# Altium footprint library pinheader_P10R2.PcbLib: 1 footprints
Each footprint in its own frame and in the unit in brackets; x right, y up, seen from the top. Pads: shape width x height; smd on the part's side, far side on the other; paste and mask are expansions set on the pad; w line width, h text height; cw(c..) or ccw(c..) is an arc to the next point about the centre after c.
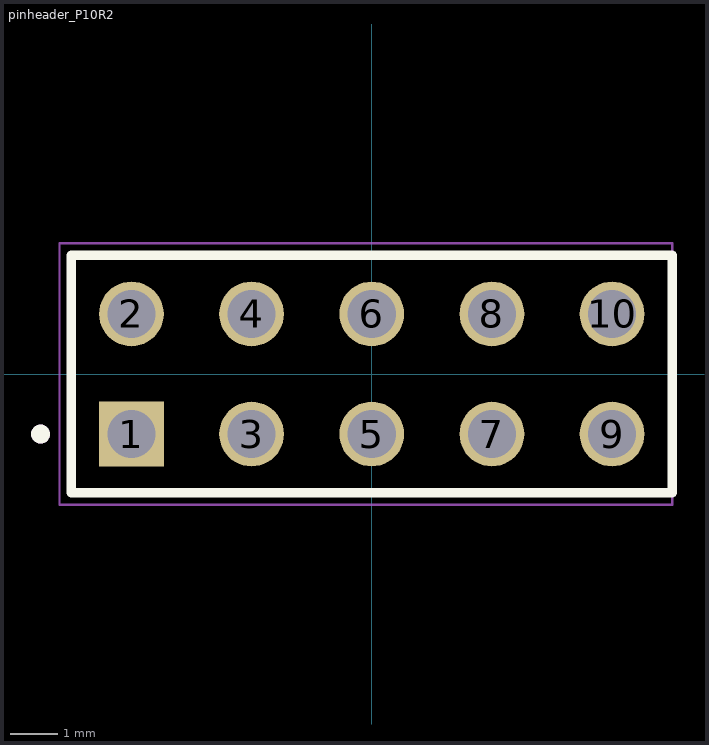
[diagram p0: the footprint, top view; thin cyan lines are the x and y axes]

## pinheader_P10R2 [mm]
pads (10):
  rect 1.37x1.37 hole 1.02: 1(-5.08,-1.27)
  round 1.37 hole 1.02: 2(-5.08,1.27) 3(-2.54,-1.27) 4(-2.54,1.27) 5(0,-1.27) 6(0,1.27) 7(2.54,-1.27) 8(2.54,1.27) 9(5.08,-1.27) 10(5.08,1.27)
Top Overlay:
  circle w0.2: c-7,-1.27 r0.1
  lines w0.2: -6.35,-2.515 6.35,-2.515 6.35,2.515 -6.35,2.515 -6.35,-2.515
Mechanical 13:
  circle w0.2: c-7,-1.27 r0.1
  lines w0.1: -6.35,-2.515 6.35,-2.515 6.35,2.515 -6.35,2.515 -6.35,-2.515
Mechanical 15:
  lines w0.05: -6.6,-2.765 6.35,-2.765 6.35,2.765 -6.6,2.765 -6.6,-2.765